# Altium integrated library SF063.IntLib: 1 symbol
Pins are listed as number, name and electrical type; pins without a type are passive.

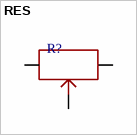
[diagram p0: symbol RES]

## RES
designator R?
footprint SF063
pins: 1, 2, 3